# Altium schematic symbol library DPBW06.SchLib: 1 symbol
Pins are listed as number, name and electrical type; pins without a type are passive.

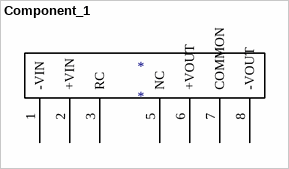
[diagram p0: symbol Component_1]

## Component_1
designator *
pins: 1 -VIN (power), 2 +VIN (power), 3 RC, 5 NC, 6 +VOUT (power), 7 COMMON, 8 -VOUT (power)